# Altium footprint library SO.PcbLib: 21 footprints (part 2 of 2)
Each footprint in its own frame and in the unit in brackets; x right, y up, seen from the top. Pads: shape width x height; smd on the part's side, far side on the other; paste and mask are expansions set on the pad; w line width, h text height; cw(c..) or ccw(c..) is an arc to the next point about the centre after c.
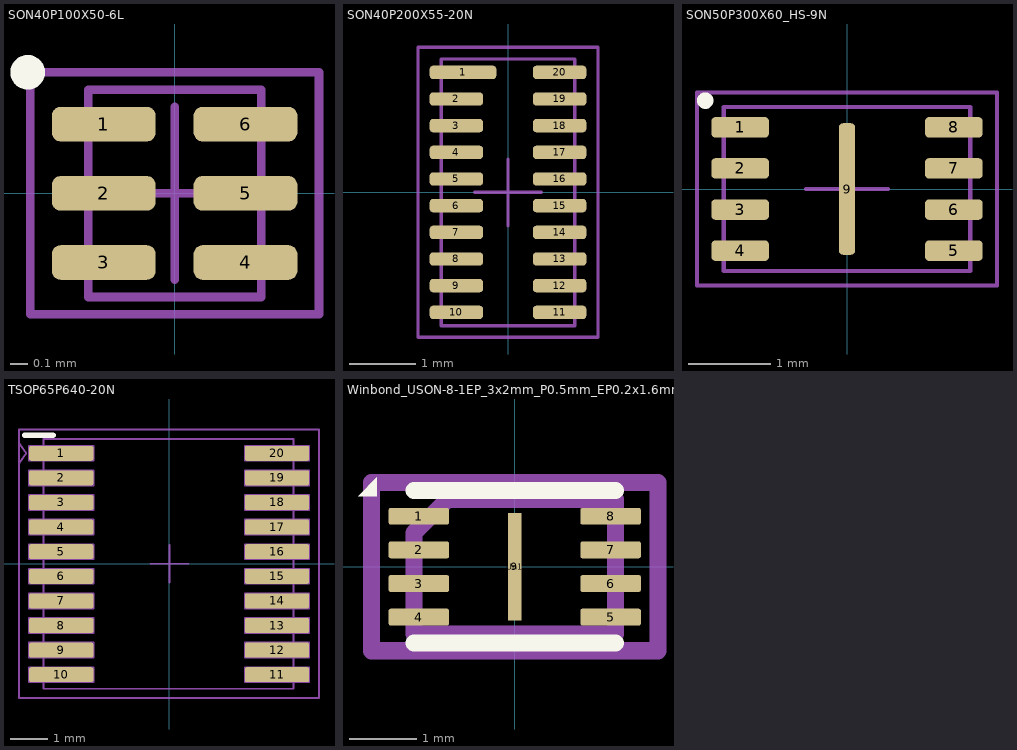
[diagram p1: the footprints below, top view; thin cyan lines are the x and y axes]

## SON40P100X50-6L [mm] "SON, 6-Leads, Body 1.20x1.00mm, Pitch 0.40mm, IPC High Density"
height 0.5
pads (6):
  rrect50% 0.6x0.2 smd mask+0.05: 1(-0.41,0.4) 2(-0.41,0) 3(-0.41,-0.4) 4(0.41,-0.4) 5(0.41,0) 6(0.41,0.4)
Top Overlay:
  circle w0.1: c-0.85,0.7 r0.05
Top Courtyard:
  lines w0.05: -0.5,0 0.5,0 ; 0,-0.5 0,0.5 ; -0.835,-0.7 -0.835,0.7 0.835,0.7 0.835,-0.7 -0.835,-0.7
Top Assembly:
  lines w0.05: -0.5,-0.6 -0.5,0.6 0.5,0.6 0.5,-0.6 -0.5,-0.6
3D body "SON40P100X50-6L.step": height 0.5, standoff 0, extent -0.55,-0.6 0.55,0.6

## SON40P200X55-20N [mm] "SON, 20-Leads, Body 4.00x2.00mm, Pitch 0.40mm, IPC Medium Density"
height 0.55
pads (20):
  rrect50% 1x0.2 smd mask+0.05: 1(-0.675,1.8)
  rrect50% 0.8x0.2 smd mask+0.05: 2(-0.775,1.4) 3(-0.775,1) 4(-0.775,0.6) 5(-0.775,0.2) 6(-0.775,-0.2) 7(-0.775,-0.6) 8(-0.775,-1) 9(-0.775,-1.4) 10(-0.775,-1.8) 11(0.775,-1.8) 12(0.775,-1.4) 13(0.775,-1) 14(0.775,-0.6) 15(0.775,-0.2) 16(0.775,0.2) 17(0.775,0.6) 18(0.775,1) 19(0.775,1.4) 20(0.775,1.8)
Top Courtyard:
  lines w0.05: -0.5,0 0.5,0 ; 0,-0.5 0,0.5 ; -1.35,-2.175 -1.35,2.175 1.35,2.175 1.35,-2.175 -1.35,-2.175
Top Assembly:
  lines w0.05: -1,-2 -1,2 1,2 1,-2 -1,-2
3D body "SON40P200X55-20N.step": height 0.55, standoff 0, extent -1.05,-2 1.05,2

## SON50P300X60_HS-9N [mm] "SON, 8-Leads, Body 2.00x3.00mm, Pitch 0.50mm, Thermal Pad 1.60x0.20mm, IPC Medium Density"
height 0.6
pads (9):
  rrect40% 0.7x0.25 smd mask+0.05: 1(-1.3,0.75) 2(-1.3,0.25) 3(-1.3,-0.25) 4(-1.3,-0.75) 5(1.3,-0.75) 6(1.3,-0.25) 7(1.3,0.25) 8(1.3,0.75)
  rrect50% 0.2x1.6 smd mask+0.05: 9(0,0)
Top Overlay:
  circle w0.1: c-1.725,1.075 r0.05
Top Courtyard:
  lines w0.05: -0.5,0 0.5,0 ; 0,-0.5 0,0.5 ; -1.825,-1.175 1.825,-1.175 1.825,1.175 -1.825,1.175 -1.825,-1.175
Top Assembly:
  lines w0.05: -1.5,-1 1.5,-1 1.5,1 -1.5,1 -1.5,-1
3D body "SON50P300X60_HS-9N.step": height 0.6, standoff 0, extent -1.55,-1 1.55,1

## TSOP65P640-20N [mm] "TSOP65P640 20N"
height 1.79
pads (20):
  rrect25% 1.7x0.395 smd mask+0.075: 1(-2.859,2.92) 2(-2.859,2.27) 3(-2.859,1.62) 4(-2.859,0.97) 5(-2.859,0.32) 6(-2.859,-0.33) 7(-2.859,-0.98) 8(-2.859,-1.63) 9(-2.859,-2.28) 10(-2.859,-2.93) 11(2.841,-2.93) 12(2.841,-2.28) 13(2.841,-1.63) 14(2.841,-0.98) 15(2.841,-0.33) 16(2.841,0.32) 17(2.841,0.97) 18(2.841,1.62) 19(2.841,2.27) 20(2.841,2.92)
Top Overlay:
  lines w0.15: -3.825,3.4 -3.075,3.4
Top Courtyard:
  lines w0.05: -3.975,2.647 -3.784,2.92 -3.975,3.192 ; -0.5,0 0,0 ; 0,-0.5 0,0 ; 0,0.5 0,0 ; 0.5,0 0,0 ; -3.975,-3.55 -3.975,3.55 3.95,3.55 3.95,-3.55 -3.975,-3.55
Top Assembly:
  lines w0.05: -3.709,-3.128 -3.709,-2.733 -2.009,-2.733 -2.009,-3.128 -3.709,-3.128 ; -3.709,-2.478 -3.709,-2.083 -2.009,-2.083 -2.009,-2.478 -3.709,-2.478 ; -3.709,-1.828 -3.709,-1.433 -2.009,-1.433 -2.009,-1.828 -3.709,-1.828 ; -3.709,-1.178 -3.709,-0.783 -2.009,-0.783 -2.009,-1.178 -3.709,-1.178 ; -3.709,-0.528 -3.709,-0.133 -2.009,-0.133 -2.009,-0.528 -3.709,-0.528 ; -3.709,0.122 -3.709,0.517 -2.009,0.517 -2.009,0.122 -3.709,0.122 ; -3.709,0.772 -3.709,1.167 -2.009,1.167 -2.009,0.772 -3.709,0.772 ; -3.709,1.422 -3.709,1.817 -2.009,1.817 -2.009,1.422 -3.709,1.422 ; -3.709,2.072 -3.709,2.467 -2.009,2.467 -2.009,2.072 -3.709,2.072 ; -3.709,2.722 -3.709,3.117 -2.009,3.117 -2.009,2.722 -3.709,2.722 ; -3.325,-3.3 -3.325,3.3 3.275,3.3 3.275,-3.3 -3.325,-3.3 ; 1.991,-3.128 1.991,-2.733 3.691,-2.733 3.691,-3.128 1.991,-3.128 ; 1.991,-2.478 1.991,-2.083 3.691,-2.083 3.691,-2.478 1.991,-2.478 ; 1.991,-1.828 1.991,-1.433 3.691,-1.433 3.691,-1.828 1.991,-1.828 ; 1.991,-1.178 1.991,-0.783 3.691,-0.783 3.691,-1.178 1.991,-1.178 ; 1.991,-0.528 1.991,-0.133 3.691,-0.133 3.691,-0.528 1.991,-0.528 ; 1.991,0.122 1.991,0.517 3.691,0.517 3.691,0.122 1.991,0.122 ; 1.991,0.772 1.991,1.167 3.691,1.167 3.691,0.772 1.991,0.772 ; 1.991,1.422 1.991,1.817 3.691,1.817 3.691,1.422 1.991,1.422 ; 1.991,2.072 1.991,2.467 3.691,2.467 3.691,2.072 1.991,2.072 ; 1.991,2.722 1.991,3.117 3.691,3.117 3.691,2.722 1.991,2.722
  text "1" at -3.709,2.722 h0.3
3D body "SW3dPS-TSOP_20.step": height 1.79, standoff -0.05, extent -3.325,-3.3 3.275,3.3

## Winbond_USON-8-1EP_3x2mm_P0.5mm_EP0.2x1.6mm [mm]
pads (10):
  rrect25% 0.9x0.25 smd mask+0.051: 1(-1.425,0.75) 2(-1.425,0.25) 3(-1.425,-0.25) 4(-1.425,-0.75) 5(1.425,-0.75) 6(1.425,-0.25) 7(1.425,0.25) 8(1.425,0.75)
  rect 0.2x1.6 smd paste-1.6 mask+0.051: 9(0,0)
  rrect25% 0.16x1.29 on Top Paste mask-1.29: Un1(0,0)
Top Overlay:
  region: -2.05,1.05 -2.33,1.05 -2.05,1.33
  lines w0.254: -1.5,-1.135 1.5,-1.135 ; -1.5,1.135 1.5,1.135
Bottom Courtyard:
  lines w0.254: -2.13,-1.25 -2.13,1.25 2.13,1.25 2.13,-1.25 -2.13,-1.25
Bottom Assembly:
  lines w0.254: -1.5,-1 -1.5,0.5 -1,1 1.5,1 1.5,-1 -1.5,-1